# EAGLE library part TP4056-PROT (library CaliBeta-Modulos)
Modulo cargador de baterias de Litio de 3.7V, con circuito de proteccion Mas detalles aqui: http://www.instructables.com/id/DIY-Lithium-ion-Battery-Charger/step4/TP4056-based-lithium-ion-battery-charger-module/ Datasheet.com <https://dlnmh9ip6v2uc.cloudfront.net/datasheets/Prototyping/TP4056.pdf>
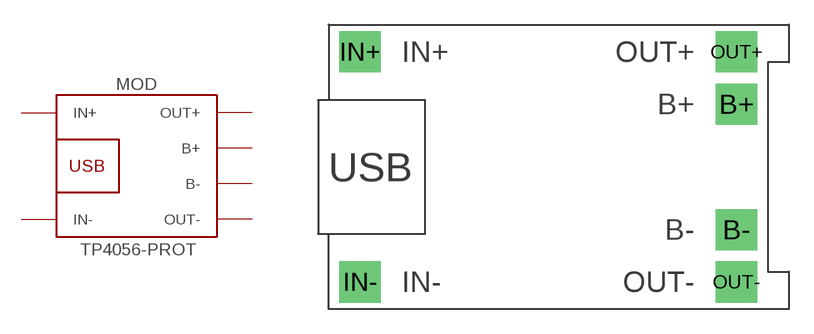
[diagram p8: symbol with the pads of TP4056-PROT; footprint TP4056-PROT]

Designator prefix MOD

## TP4056-PROT  [TP4056-PROT]
B+  B+
B-  B-
IN+  IN+
IN-  IN-
OUT+  OUT+
OUT-  OUT-

## Footprint TP4056-PROT (pad centres in mm)
drill 1.2 pad 2.5 square: B+ 12.065,3.81; B- 12.065,-3.81; IN+ -10.795,6.985; IN- -10.795,-6.985; OUT+ 12.065,6.985; OUT- 12.065,-6.985